# Altium footprint library Schraubklemme_1x2.PcbLib: 1 footprints
Each footprint in its own frame and in the unit in brackets; x right, y up, seen from the top. Pads: shape width x height; smd on the part's side, far side on the other; paste and mask are expansions set on the pad; w line width, h text height; cw(c..) or ccw(c..) is an arc to the next point about the centre after c.
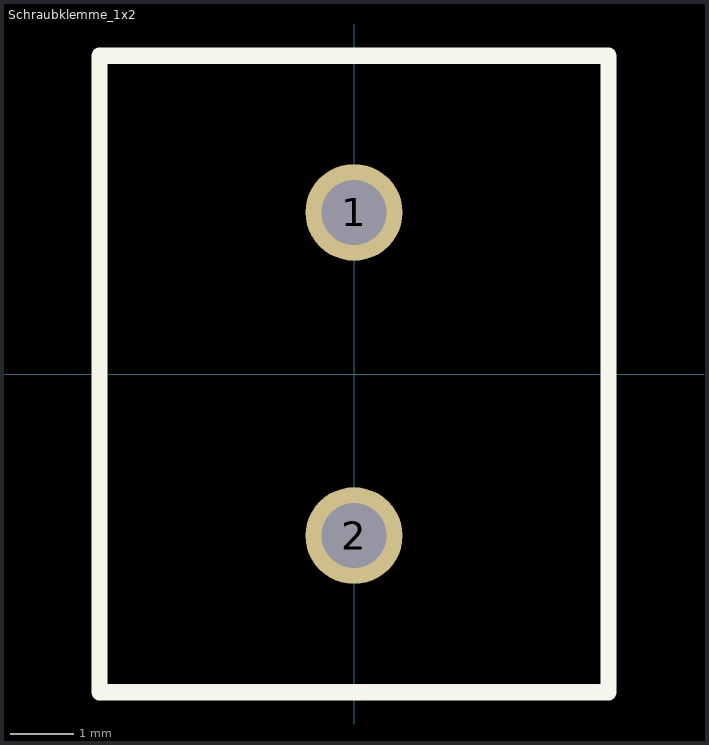
[diagram p0: the footprint, top view; thin cyan lines are the x and y axes]

## Schraubklemme_1x2 [mil]
pads (2):
  round 60 hole 40.16: 1(0,100) 2(0,-100)
Top Overlay:
  lines w10: -157.48,-196.85 157.48,-196.85 157.48,196.85 -157.48,196.85 -157.48,-196.85
3D body "Schraubklemme_1x2.stp": height 393.7, standoff -137.8, extent -157.48,-196.85 161.42,196.85